# Altium footprint library PQFN 7x8.PcbLib: 1 footprints
Each footprint in its own frame and in the unit in brackets; x right, y up, seen from the top. Pads: shape width x height; smd on the part's side, far side on the other; paste and mask are expansions set on the pad; w line width, h text height; cw(c..) or ccw(c..) is an arc to the next point about the centre after c.
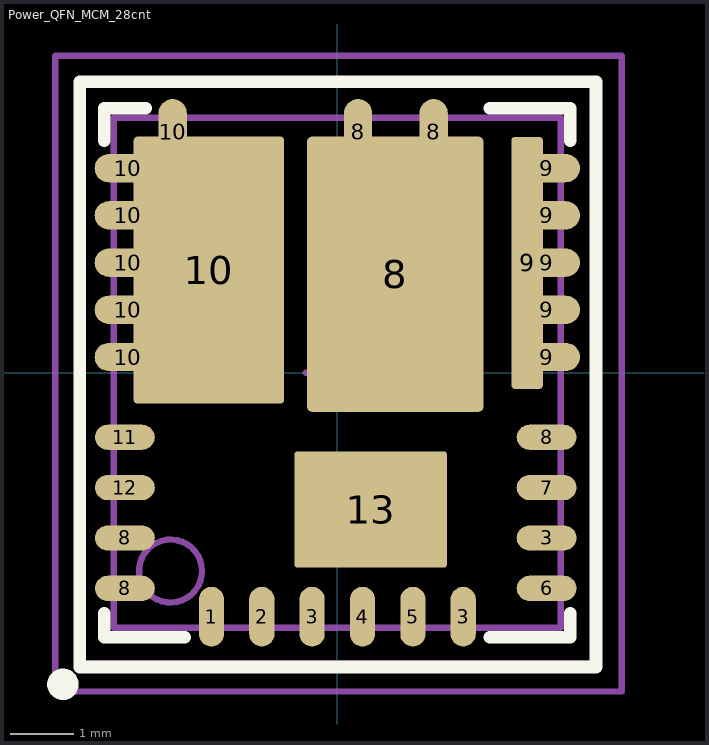
[diagram p0: the footprint, top view; thin cyan lines are the x and y axes]

## Power_QFN_MCM_28cnt [mm] "QFN, 28-Leads, Body 8,00x7,00mm, Pitch 0,80mm/0,75mm, Thermal Pad 1,80x2,37mm, IPC Medium Density"
height 1
pads (31):
  oval 0.4x0.95 smd: 1(-2,-3.875) 2(-1.2,-3.875) 3(-0.4,-3.875) 3(2,-3.875) 4(0.4,-3.875) 5(1.2,-3.875)
  oval 0.95x0.4 smd: 3(3.325,-2.625) 6(3.325,-3.425) 7(3.325,-1.825) 8(-3.375,-3.425) 8(-3.375,-2.625) 8(3.325,-1.025) 11(-3.375,-1.025) 12(-3.375,-1.825)
  oval 0.45x1.05 smd: 8(0.329,3.825) 8(1.529,3.825) 10(-2.617,3.825)
  rrect5% 2.8x4.37 smd: 8(0.92,1.565)
  rrect20% 0.5x4 smd: 9(3.015,1.745)
  oval 1.05x0.45 smd: 9(3.33,0.25) 9(3.33,1) 9(3.33,1.75) 9(3.33,2.5) 9(3.33,3.25) 10(-3.33,0.25) 10(-3.33,1) 10(-3.33,1.75) 10(-3.33,2.5) 10(-3.33,3.25)
  rrect5% 2.39x4.245 smd: 10(-2.04,1.63)
  rrect5% 2.42x1.85 smd: 13(0.53,-2.173)
Top Overlay:
  circle w0.25: c-4.36,-4.95 r0.125
  lines w0.2: -3.7,-3.825 -3.7,-4.2 -2.425,-4.2 ; -3.7,3.685 -3.7,4.2 -3.045,4.2 ; 2.425,-4.2 3.7,-4.2 3.7,-3.825 ; 2.425,4.2 3.7,4.2 3.7,3.685 ; -4.09,-4.675 4.11,-4.675 4.11,4.625 -4.09,4.625 -4.09,-4.675
Mechanical 13:
  circle w0.1: c-2.65,-3.15 r0.5
  lines w0.1: -3.55,-4.05 -3.55,4.05 3.55,4.05 3.55,-4.05 -3.55,-4.05
Mechanical 15:
  lines w0.05: -4.1,-4.6 -4.1,4.6 4.1,4.6 4.1,-4.6 -4.1,-4.6
  lines w0.1: -0.5,0 0.5,0 ; 0,-0.5 0,0.5 ; -4.48,-5.065 4.52,-5.065 4.52,5.035 -4.48,5.035 -4.48,-5.065
3D body: height 1, standoff 0, extent -3.55,-4.05 3.55,4.05